# EAGLE library part MOMO-VERT-6M (library components)
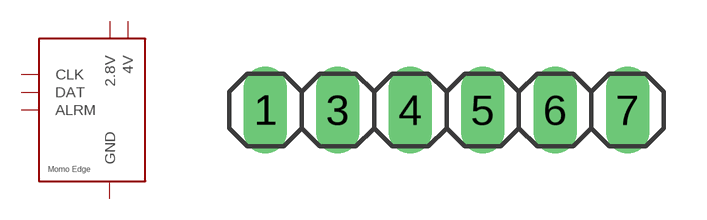
[diagram p28: symbol with the pads of 1X06; footprint 1X06]

Designator prefix JP

## MOMO-VERT-6M  [1X06]
1  2.8V  pwr
3  CLK
4  DAT
5  ALRM
6  4V  pwr
7  GND  pwr

## Footprint 1X06 (pad centres in mm)
PIN HEADER
drill 1.016 long: 1 -8.89,0; 3 -6.35,0; 4 -3.81,0; 5 -1.27,0; 6 1.27,0; 7 3.81,0